# Altium integrated library TLV62568DBVR.IntLib: 1 symbol
Pins are listed as number, name and electrical type; pins without a type are passive.

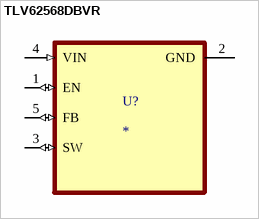
[diagram p0: symbol TLV62568DBVR]

## TLV62568DBVR
designator U?
2.5V-5.5V input, 1A high efficiency step-down buck converter in SOT23 and SOT563 package; MF: Texas Instruments; MP: TLV62568DBVR; SnapEDA_Link: https://www.snapeda.com/parts/TLV62568DBVR/Texas+Instruments/view-part/?ref=snap; Package: SOT-23-5 Texas Instruments; Value: *; Check_prices: https://www.snapeda.com/parts/TLV62568DBVR/Texas+Instruments/view-part/?ref=eda
footprint SOT95P280X145-5N
pins: 1 EN (io), 2 GND (power), 3 SW (io), 4 VIN (in), 5 FB (io)